# EAGLE library part TMC401-PI (library trinamic)
TRINAMIC Step/direction to SPI converter for TMC23x/24x stepper driver family Information given in this library is believed to be accurate and reliable. However no warranty is given for its correctness. Datasheet for TMC401 <http://www.trinamic.com/tmc/media/Downloads/integrated_circuits/TMC401/TMC401_datasheet.pdf> Description Step/direction to SPI converter for TMC23x/24x stepper driver family The TMC-401 converts step/direction signals into SPI datagrams that can be used to drive a TMC236, TMC239, TMC246 or TMC249 stepper motor driver chip directly. It provides five different microstep resolutions (from 1/32 to 1/2) as well as two full step resolution modes. The stallGuard™ bits of a TMC246 or TMC249 motor driver are output on three pins, in order to allow an easy usage of the StallGuard feature. Also the overtemperature pre-warning bit is output on one extra pin (and can be used to shut off the driver when there is an overtemperature pre-warning condition). The TMC401 also provides a feature that reduces the motor current to 25% when there have not been any step pulses for at least one second. This features can be enabled or disabled. Mixed Decay can also be enabled or disabled using a dedicated pin. Specifications Main characteristics step-/directon signal to SPI converter allow step-/direction control for TMC236, TMC246, TMC239, TMC249 drivers outputs for stallGuard™ value and driver OTPW flag resolution control from fullstep up to 1/32 microsteps optional power down control mixed decay selectable Interface step-/direction input up to 245kHz SPI output Electrical data 5V supply required 5V CMOS / TTL compatible IOs Package TQFP32 RoHS compliant
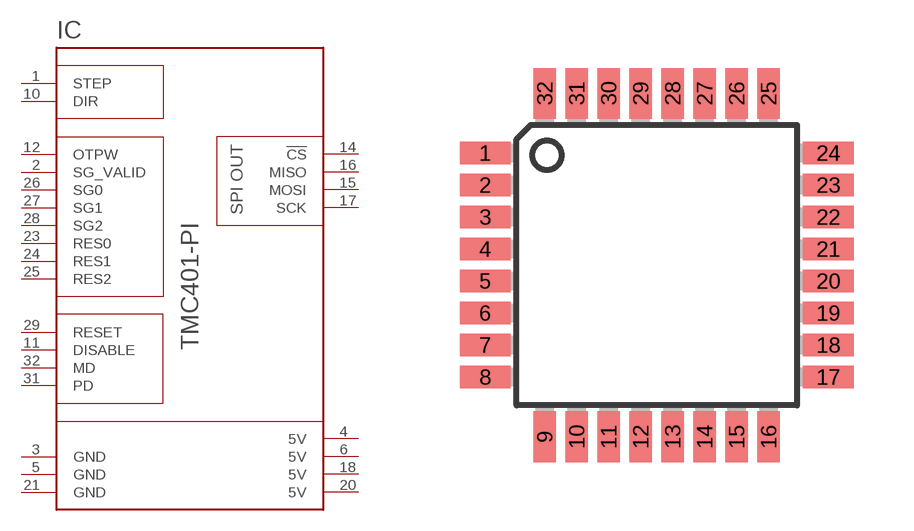
[diagram p23: symbol with the pads of TQFP32; footprint TQFP32]

Designator prefix IC

## TMC401-PI  [TQFP32]
1  STEP  in
2  SG_VALID  out
3  GND  in
4  5V  in
5  GND  in
6  5V  in
10  DIR  in
11  DISABLE  in
12  OTPW  out
14  !CS  out
15  MOSI  out
16  MISO  in
17  SCK  out
18  5V  in
20  5V  in
21  GND  in
23  RES0  in
24  RES1  in
25  RES2  in
26  SG0  out
27  SG1  out
28  SG2  out
29  RESET  in
31  PD  in
32  MD  in

## Footprint TQFP32 (pad centres in mm)
smd 1.27 x 0.559: 1 -4.293,2.8; 2 -4.293,2; 3 -4.293,1.2; 4 -4.293,0.4; 5 -4.293,-0.4; 6 -4.293,-1.2; 7 -4.293,-2; 8 -4.293,-2.8; 17 4.293,-2.8; 18 4.293,-2; 19 4.293,-1.2; 20 4.293,-0.4; 21 4.293,0.4; 22 4.293,1.2; 23 4.293,2; 24 4.293,2.8
smd 0.559 x 1.27: 9 -2.8,-4.293; 10 -2,-4.293; 11 -1.2,-4.293; 12 -0.4,-4.293; 13 0.4,-4.293; 14 1.2,-4.293; 15 2,-4.293; 16 2.8,-4.293; 25 2.8,4.293; 26 2,4.293; 27 1.2,4.293; 28 0.4,4.293; 29 -0.4,4.293; 30 -1.2,4.293; 31 -2,4.293; 32 -2.8,4.293